# Altium footprint library DO-218AB.PcbLib: 1 footprints
Each footprint in its own frame and in the unit in brackets; x right, y up, seen from the top. Pads: shape width x height; smd on the part's side, far side on the other; paste and mask are expansions set on the pad; w line width, h text height; cw(c..) or ccw(c..) is an arc to the next point about the centre after c.
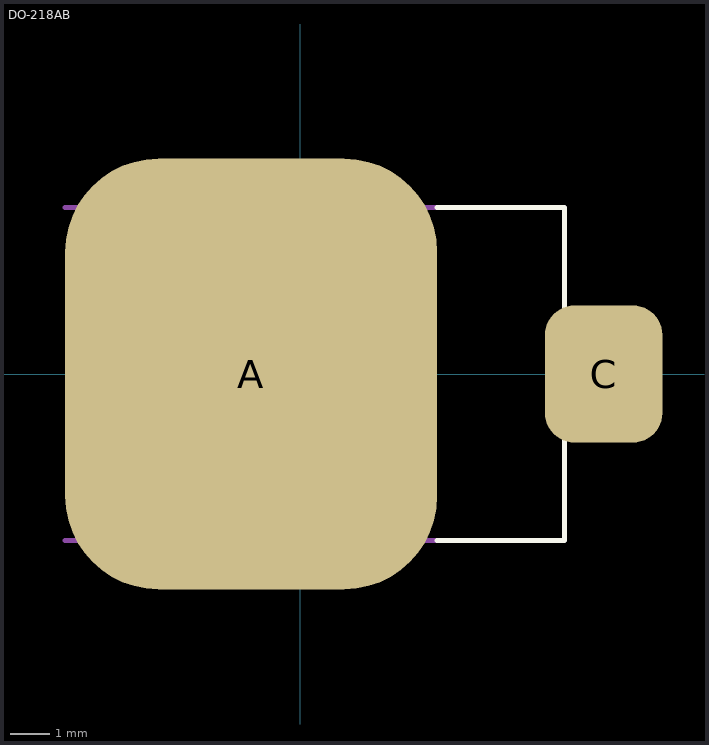
[diagram p0: the footprint, top view; thin cyan lines are the x and y axes]

## DO-218AB [mm]
pads (2):
  rrect50% 9.5x11 smd: A(-1.25,0)
  rrect50% 3x3.5 smd: C(7.75,0)
Top Overlay:
  lines w0.127: 3.5,-4.25 6.75,-4.25 6.75,4.25 3.5,4.25
Mechanical 13:
  lines w0.127: -6,-4.25 3.5,-4.25 ; -6,4.25 3.5,4.25
3D body "User Library-DO-218AB.STEP": height 5, standoff 0, extent -6.743,-5 8.687,5